# Altium schematic symbol library ArduinoNanoV30.SCHLIB: 1 symbol
Pins are listed as number, name and electrical type; pins without a type are passive.

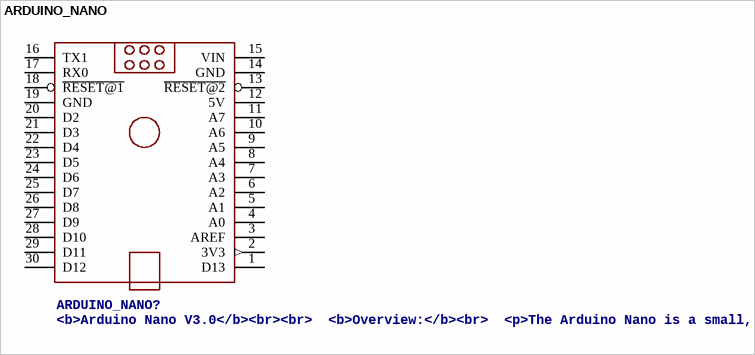
[diagram p0: symbol ARDUINO_NANO]

## ARDUINO_NANO
designator ARDUINO_NANO?, comment <b>Arduino Nano V3.0</b><br><br> / <b>Overview:</b><br> / <p>The Arduino Nano is a small, complete, and breadboard-friendly board based on the ATmega328 (Arduino Nano 3.x) or ATmega168 (Arduino Nano 2.x). <br>It has more or less the same functionality of the Arduino Duemilanove, but in a different package.<br> / It lacks only a DC power jack, and works with a Mini-B USB cable instead of a standard one.<br> / The Nano was designed and is being produced by Gravitech.</p><br> / <b>Specifications:</b> / <table border="1" style="width:auto"> / <tr> / <td>Microcontroller</td> / <td>Atmel ATmega168 or ATmega328</td> / </tr> / <tr> / <td>Operating Voltage (logic level)</td> / <td>5 V</td> / </tr> / <tr> / <td>Input Voltage (recommended)</td> / <td>7-12 V</td> / <tr> / <td>Input Voltage (limits)</td> / <td>6-20 V</td> / <tr> / <td>Digital I/O Pins</td> / <td>14 (of which 6 provide PWM output)</td> / <tr> / <td>Analog Input Pins</td> / <td>8</td> / <tr> / <td>DC Current per I/O Pin</td> / <td>40 mA</td> / </tr> / <tr> / <td>Flash Memory</td> / <td>16 KB (ATmega168) or 32 KB (ATmega328) of which 2 KB used by bootloader</td> / </tr> / <tr> / <td>SRAM</td> / <td>1 KB (ATmega168) or 2 KB (ATmega328)</td> / </tr> / <tr> / <td>EEPROM</td> / <td>512 bytes (ATmega168) or 1 KB (ATmega328)</td> / </tr> / <tr> / <td>Clock Speed</td> / <td>16 MHz</td> / </tr> / <tr> / <td>Dimensions</td> / <td>0.73" x 1.70"</td> / </tr> / <tr> / <td>Length</td> / <td>45 mm</td> / </tr> / <tr> / <td>Width</td> / <td>18 mm</td> / </tr> / <tr> / <td>Weigth</td> / <td>5 g</td> / </tr> / </table> / <br><br> / <b>Power:</b><br> / <p>The Arduino Nano can be powered via the Mini-B USB connection, 6-20V unregulated external power supply (pin 30), or 5V regulated external power supply (pin 27).<br> / The power source is automatically selected to the highest voltage source.</p><br> / <b>Memory:</b><br> / <p>The ATmega168 has 16 KB of flash memory for storing code (of which 2 KB is used for the bootloader); the ATmega328 has 32 KB, (also with 2 KB used for the bootloader).<br> / The ATmega168 has 1 KB of SRAM and 512 bytes of EEPROM (which can be read and written with the EEPROM library); the ATmega328 has 2 KB of SRAM and 1 KB of EEPROM.</p><br> / <b>Input and Output:</b><br> / <p>Each of the 14 digital pins on the Nano can be used as an input or output, using pinMode(), digitalWrite(), and digitalRead() functions.<br> / They operate at 5 volts.<br> / Each pin can provide or receive a maximum of 40 mA and has an internal pull-up resistor (disconnected by default) of 20-50 kOhms. In addition, some pins have specialized functions.</p><br> / <a href="https://www.arduino.cc/en/Main/ArduinoBoardNano">Visit Arduino - ArduinoBoardNano</a>
footprint ARDUINO_NANO
pins: 1 D13, 2 3V3 (out), 3 AREF, 4 A0, 5 A1, 6 A2, 7 A3, 8 A4, 9 A5, 10 A6, 11 A7, 12 5V (power), 13 ~{RESET@2}, 14 GND (power), 15 VIN (power), 16 TX1, 17 RX0, 18 ~{RESET@1}, 19 GND (power), 20 D2, 21 D3, 22 D4, 23 D5, 24 D6, 25 D7, 26 D8, 27 D9, 28 D10, 29 D11, 30 D12